# EAGLE library part TLV61225 (library Master)
Texas Instruments TLV61225: DC-DC Boost Converter Vin: 0.8 - 3.3V Vout: 3.3V Datasheet: http://www.ti.com/lit/ds/symlink/tlv61225.pdf
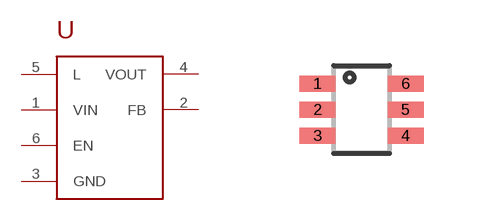
[diagram p1: symbol with the pads of SOT363; footprint SOT363]

Designator prefix U

## TLV61225  [SOT363]
1  VIN
2  FB
3  GND
4  VOUT
5  L
6  EN

## Footprint SOT363 (pad centres in mm)
SOT-363, 6-TSSOP, SC-88, SC-70-6
smd 0.9 x 0.4: 1 -1.1,0.65; 2 -1.1,0; 3 -1.1,-0.65; 4 1.1,-0.65; 5 1.1,0; 6 1.1,0.65